# Altium footprint library Ben_Library.PCBLIB: 1 footprints
Each footprint in its own frame and in the unit in brackets; x right, y up, seen from the top. Pads: shape width x height; smd on the part's side, far side on the other; paste and mask are expansions set on the pad; w line width, h text height; cw(c..) or ccw(c..) is an arc to the next point about the centre after c.
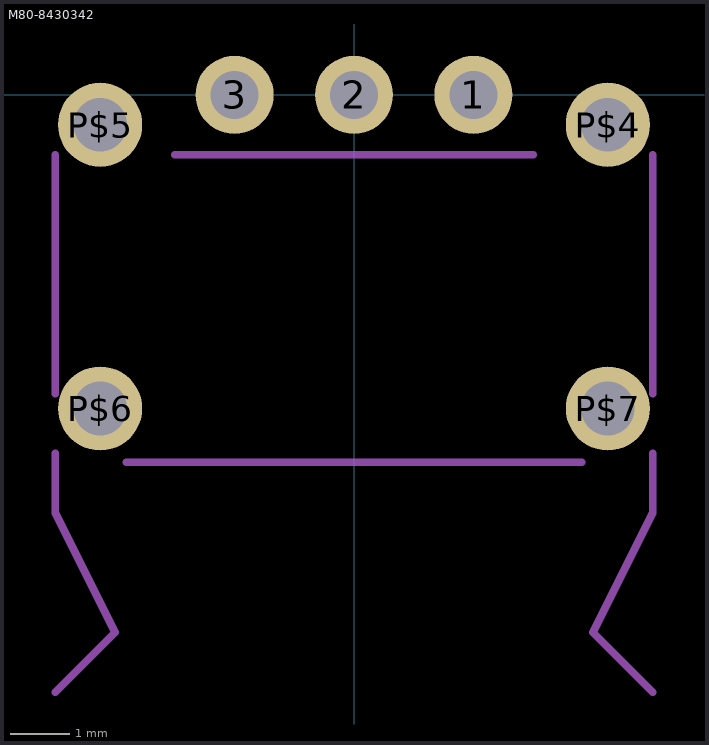
[diagram p0: the footprint, top view; thin cyan lines are the x and y axes]

## M80-8430342 [mil]
pads (7):
  round 51.5 hole 31.5: 1(78.74,0) 2(0,0) 3(-78.74,0)
  round 55.43 hole 35.43: P$4(167.32,-19.69) P$5(-167.32,-19.69) P$6(-167.32,-206.69) P$7(167.32,-206.69)
tPlace:
  lines w5: -196.85,-393.7 -157.48,-354.33 -196.85,-275.59 -196.85,-236.22 ; -196.85,-196.85 -196.85,-39.37 ; -150,-242.13 150,-242.13 ; -118.11,-39.37 118.11,-39.37 ; 196.85,-393.7 157.48,-354.33 196.85,-275.59 196.85,-236.22 ; 196.85,-196.85 196.85,-39.37